# Altium footprint library 2x19p header.PcbLib: 1 footprints
Each footprint in its own frame and in the unit in brackets; x right, y up, seen from the top. Pads: shape width x height; smd on the part's side, far side on the other; paste and mask are expansions set on the pad; w line width, h text height; cw(c..) or ccw(c..) is an arc to the next point about the centre after c.
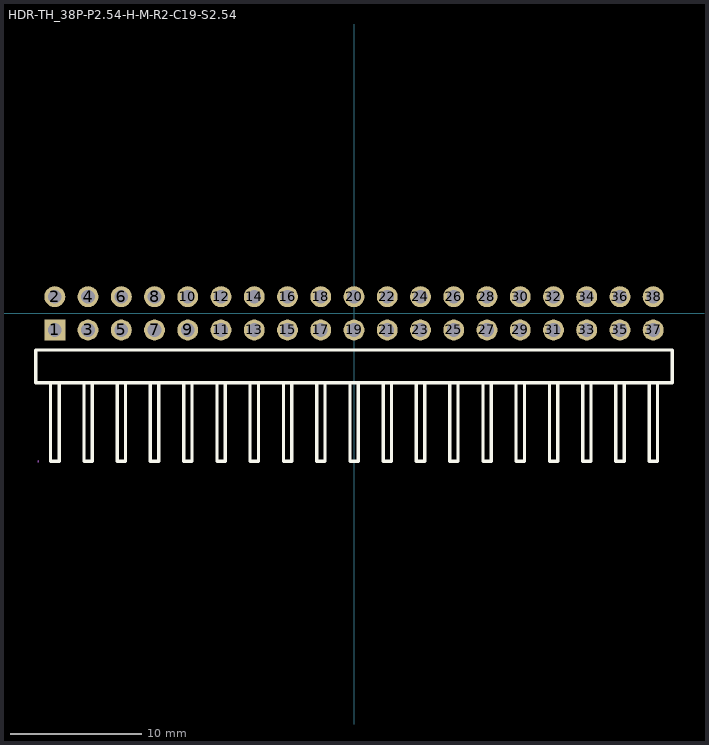
[diagram p0: the footprint, top view; thin cyan lines are the x and y axes]

## HDR-TH_38P-P2.54-H-M-R2-C19-S2.54 [mm]
pads (38):
  rect 1.6x1.6 hole 1.05: 1(-22.86,-1.27)
  round 1.6 hole 1.05: 2(-22.86,1.27) 3(-20.32,-1.27) 4(-20.32,1.27) 5(-17.78,-1.27) 6(-17.78,1.27) 7(-15.24,-1.27) 8(-15.24,1.27) 9(-12.7,-1.27) 10(-12.7,1.27) 11(-10.16,-1.27) 12(-10.16,1.27) 13(-7.62,-1.27) 14(-7.62,1.27) 15(-5.08,-1.27) 16(-5.08,1.27) 17(-2.54,-1.27) 18(-2.54,1.27) 19(0,-1.27) 20(0,1.27) 21(2.54,-1.27) 22(2.54,1.27) 23(5.08,-1.27) 24(5.08,1.27) 25(7.62,-1.27) 26(7.62,1.27) 27(10.16,-1.27) 28(10.16,1.27) 29(12.7,-1.27) 30(12.7,1.27) 31(15.24,-1.27) 32(15.24,1.27) 33(17.78,-1.27) 34(17.78,1.27) 35(20.32,-1.27) 36(20.32,1.27) 37(22.86,-1.27) 38(22.86,1.27)
F.SilkS:
  lines w0.25: -23.18,-5.3 -23.18,-11.31 -22.53,-11.31 -22.53,-5.3 ; -20.63,-5.3 -20.63,-11.31 -20,-11.31 -20,-5.31 ; -18.09,-5.3 -18.09,-11.31 -17.45,-11.31 -17.45,-5.3 ; -15.56,-5.3 -15.56,-11.31 -14.91,-11.31 -14.91,-5.3 ; -13.01,-5.3 -13.01,-11.31 -12.38,-11.31 -12.38,-5.3 ; -10.47,-5.3 -10.47,-11.31 -9.83,-11.31 -9.83,-5.31 ; -7.94,-5.3 -7.94,-11.31 -7.29,-11.31 -7.29,-5.3 ; -5.39,-5.3 -5.39,-11.31 -4.75,-11.31 -4.75,-5.31 ; -2.85,-5.3 -2.85,-11.31 -2.21,-11.31 -2.21,-5.3 ; -0.31,-5.3 -0.31,-11.31 0.32,-11.31 0.32,-5.31 ; 2.23,-5.3 2.23,-11.31 2.87,-11.31 2.87,-5.31 ; 4.76,-5.3 4.76,-11.31 5.41,-11.31 5.41,-5.3 ; 7.31,-5.3 7.31,-11.31 7.94,-11.31 7.94,-5.3 ; 9.85,-5.3 9.85,-11.31 10.49,-11.31 10.49,-5.3 ; 12.38,-5.3 12.38,-11.31 13.03,-11.31 13.03,-5.31 ; 14.93,-5.3 14.93,-11.31 15.56,-11.31 15.56,-5.31 ; 17.47,-5.3 17.47,-11.31 18.11,-11.31 18.11,-5.31 ; 20,-5.3 20,-11.31 20.65,-11.31 20.65,-5.3 ; 22.55,-5.3 22.55,-11.31 23.19,-11.31 23.19,-5.31 ; -24.31,-5.3 24.31,-5.3 24.31,-2.81 -24.31,-2.81 -24.31,-5.3
F.Fab:
  circle w0.06: c-24.13,-11.31 r0.03
  text "'.Designator'" at -4.047,-0.84 h1
3D body "HDR-TH_38P-P2.54-M-WI-2X19P.step": height 5, standoff -3, extent -24.14,-11.314 24.13,1.586